# Altium footprint library TO127P1524X457-8_7N-V.PcbLib: 1 footprints
Each footprint in its own frame and in the unit in brackets; x right, y up, seen from the top. Pads: shape width x height; smd on the part's side, far side on the other; paste and mask are expansions set on the pad; w line width, h text height; cw(c..) or ccw(c..) is an arc to the next point about the centre after c.
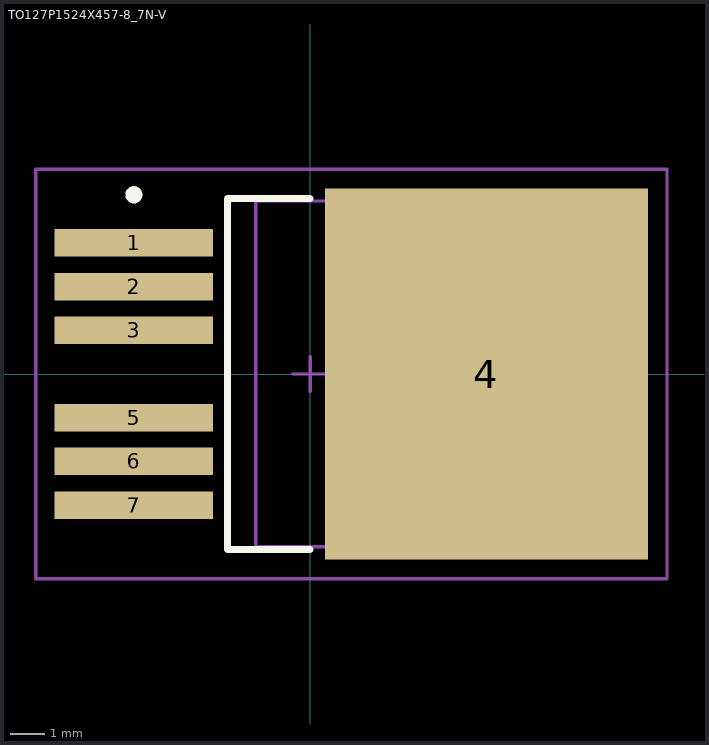
[diagram p0: the footprint, top view; thin cyan lines are the x and y axes]

## TO127P1524X457-8_7N-V [mm] "TO,1.27mm pitch;7 pin,15.245mm L X 8.98mm W X 4.57mm H body"
height 4.57
pads (7):
  rect 4.6x0.8 smd paste+0 mask+0: 1(-5.125,3.81) 2(-5.125,2.54) 3(-5.125,1.27) 5(-5.125,-1.27) 6(-5.125,-2.54) 7(-5.125,-3.81)
  rect 9.4x10.8 smd paste+0 mask+0: 4(5.125,0)
Top Overlay:
  circle w0.25: c-5.125,5.21 r0.125
  lines w0.2: 0,-5.1 -2.4,-5.1 -2.4,5.1 0,5.1
M3 (ASY_Text_Top):
  text ".DESIGNATOR" at 0,0 h1.2
M13 (CMP_Body_OTL_Top):
  lines w0.1: -1.575,-5.026 7.675,-5.026 7.675,5.029 -1.575,5.029 -1.575,-5.026
M15 (CMP_Courtyard_Top):
  lines w0.1: -0.5,0 0.5,0 ; 0,-0.5 0,0.5 ; -7.975,-5.95 10.375,-5.95 10.375,5.95 -7.975,5.95 -7.975,-5.95
3D body "TO263-7-3.stp": height 4.51, standoff 0, extent -6.275,-5 8.675,5